# Altium schematic symbol library SM712-02HTG.SchLib: 1 symbol
Pins are listed as number, name and electrical type; pins without a type are passive.

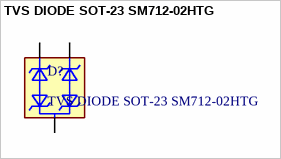
[diagram p0: symbol TVS DIODE SOT-23 SM712-02HTG]

## TVS DIODE SOT-23 SM712-02HTG
designator D?
TVS Diode, SM712 Series, 31V Clamp, 600W Peak Pulse, Surface Mount,Bi-Directional, SOT23-3 | Littelfuse SM712-02HTG; MF: Littelfuse Inc.; SnapEDA_Link: https://www.snapeda.com/parts/SM712-02HTG/Littelfuse/view-part/?ref=snap; Package: SOT-23 Littelfuse Inc.; Value: *; MP: SM712-02HTG; Check_prices: https://www.snapeda.com/parts/SM712-02HTG/Littelfuse/view-part/?ref=eda
footprint TVS Diode SOT23 (TVS Diode, SM712 Series, 31V Clamp, 600W Peak Pulse, Surface Mount,Bi-Directional, SOT23-3)
pins: 1, 2, 3